# EAGLE library part PPTC141LFBN-RC (library Oscilloscope Component Library)
05 MODII HDR SRST B/A .100CL Check availability <https://pricing.snapeda.com/parts/5-146280-5/TE%20Connectivity/view-part?ref=eda>
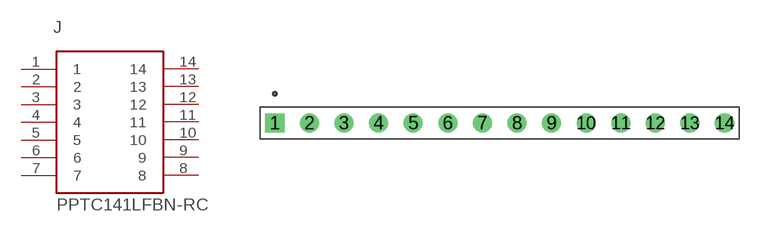
[diagram p6: symbol with the pads of PPTC141LFBN-RC; footprint PPTC141LFBN-RC]

Designator prefix J

## PPTC141LFBN-RC (AVAILABILITY: In Stock; CENTERLINE_PITCH: 2.54 mm[.1 in]; CHECK_PRICES: https://www.snapeda.com/parts/5-146280-5/TE+Connectivity+AMP+Connectors/view-part/?ref=eda; COMMENT: 5-146280-5; DESCRIPTION: Conn Unshrouded Header HDR 5 POS 2.54mm Solder ST Thru-Hole Carton; EU_ROHS_COMPLIANCE: Compliant; MF: TE Connectivity; MP: 5-146280-5; NUMBER_OF_POSITIONS: 5; PACKAGE: None; PRICE: None; PRODUCT_TYPE: Connector; PURCHASE-URL: https://www.snapeda.com/api/url_track_click_mouser/?unipart_id=700092&manufacturer=TE Connectivity&part_name=5-146280-5&search_term=None; SNAPEDA_LINK: https://www.snapeda.com/parts/5-146280-5/TE+Connectivity+AMP+Connectors/view-part/?ref=snap)  [PPTC141LFBN-RC]
1  1  pas
2  2  pas
3  3  pas
4  4  pas
5  5  pas
6  6  pas
7  7  pas
8  8  pas
9  9  pas
10  10  pas
11  11  pas
12  12  pas
13  13  pas
14  14  pas

## Footprint PPTC141LFBN-RC (pad centres in mm)
drill 0.89 square: 1 -5.08,0
drill 0.89: 2 -2.54,0; 3 0,0; 4 2.54,0; 5 5.08,0; 6 7.62,0; 7 10.16,0; 8 12.7,0; 9 15.24,0; 10 17.78,0; 11 20.32,0; 12 22.86,0; 13 25.4,0; 14 27.94,0